# Altium schematic symbol library 2020-07-25_05-54-05.SchLib: 2 symbols
Pins are listed as number, name and electrical type; pins without a type are passive.

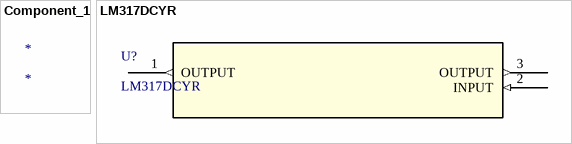
[diagram p0: symbols Component_1 to LM317DCYR]

## Component_1
designator *

## LM317DCYR
designator U?
No Description Available; Vendor: Texas Instruments; Built_By: EMA_UL_Team; SourceLibrary: TI_2011-12-14; Manufacturer_Part_Number: LM317DCYR; Copyright: Copyright (C) 2018 Accelerated Designs. All rights reserved; RefDes: RefDes; Type: DEV
footprint DCY4_TEX
pins: 1 OUTPUT (out), 2 INPUT (in), 3 OUTPUT (out)